# EAGLE library part HEADER-1X7 (library 154N_NAU7802_TH)
PIN HEADER
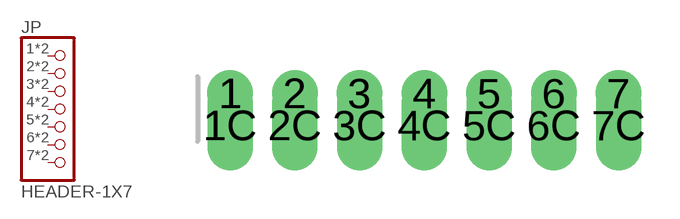
[diagram p5: symbol with the pads of 1X07_CASTEL; footprint 1X07_CASTEL]

Designator prefix JP

## HEADER-1X7_CASTEL  [1X07_CASTEL]
1  1  pas
1C  1  pas
2  2  pas
2C  2  pas
3  3  pas
3C  3  pas
4  4  pas
4C  4  pas
5  5  pas
5C  5  pas
6  6  pas
6C  6  pas
7  7  pas
7C  7  pas

## Footprint 1X07_CASTEL (pad centres in mm)
drill 1 pad 1.778: 1 -7.62,0; 2 -5.08,0; 3 -2.54,0; 4 0,0; 5 2.54,0; 6 5.08,0; 7 7.62,0
drill 0.45 pad 1.778 long: 1C -7.62,-1.27; 2C -5.08,-1.27; 3C -2.54,-1.27; 4C 0,-1.27; 5C 2.54,-1.27; 6C 5.08,-1.27; 7C 7.62,-1.27